# EAGLE library part NL37WZ14 (library IC)
On-Semiconductor NL37WZ14 Inverting Schmitt Trigger
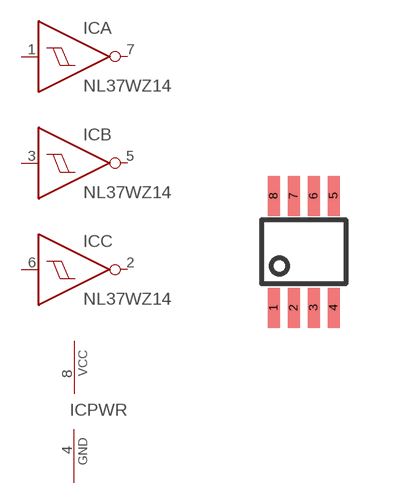
[diagram p101: symbol with the pads of US8; footprint US8]

Designator prefix IC; gates A=7414 B=7414 C=7414 PWR=PWR-VCC-GND

## NL37WZ14-US8  [US8]
1  A:I  in
2  C:O  out
3  B:I  in
4  PWR:GND  pwr
5  B:O  out
6  C:I  in
7  A:O  out
8  PWR:VCC  pwr

## Footprint US8 (pad centres in mm)
smd 0.3 x 1: 1 -0.7,-1.4; 2 -0.2,-1.4; 3 0.3,-1.4; 4 0.8,-1.4; 5 0.8,1.4; 6 0.3,1.4; 7 -0.2,1.4; 8 -0.7,1.4